# EAGLE library part TDA2500 (library Audio-Power-amlifier V.2.0)
The TDA2500 is a two-channel Amplifier Driver IC that uses Tripath’s proprietary Digital Power Processing (DPPTM) technology. Class-T amplifiers offer both the audio fidelity of Class-AB and the power efficiency of Class-D amplifiers.
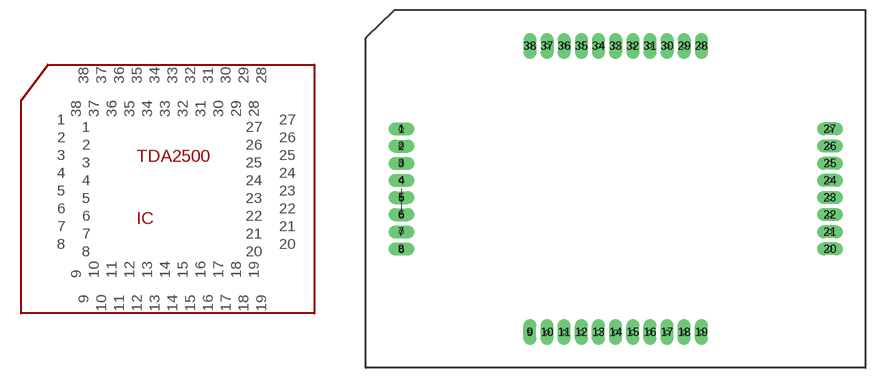
[diagram p90: symbol with the pads of 4150-1X8SF1; footprint 4150-1X8SF1]

Designator prefix IC

## TDA2500  [4150-1X8SF1]
1  1  pwr
2  2
3  3  pwr
4  4
5  5  in
6  6  in
7  7
8  8
9  9  out
10  10  out
11  11
12  12
13  13
14  14
15  15
16  16
17  17
18  18
19  19
20  20  out
21  21
22  22
23  23  pwr
24  24  pwr
25  25
26  26
27  27  out
28  28  pwr
29  29
30  30
31  31
32  32
33  33
34  34
35  35
36  36  nc
37  37  pwr
38  38  pwr

## Footprint 4150-1X8SF1 (pad centres in mm)
drill 0.9 pad 1.93 long: 1 -31.75,8.89; 2 -31.75,6.35; 3 -31.75,3.81; 4 -31.75,1.27; 5 -31.75,-1.27; 6 -31.75,-3.81; 7 -31.75,-6.35; 8 -31.75,-8.89; 9 -12.7,-21.2; 10 -10.16,-21.2; 11 -7.62,-21.2; 12 -5.08,-21.2; 13 -2.54,-21.2; 14 0,-21.2; 15 2.54,-21.2; 16 5.08,-21.2; 17 7.62,-21.2; 18 10.16,-21.2; 19 12.7,-21.2; 20 31.75,-8.89; 21 31.75,-6.35; 22 31.75,-3.81; 23 31.75,-1.27; 24 31.75,1.27; 25 31.75,3.81; 26 31.75,6.35; 27 31.75,8.89; 28 12.7,21.2; 29 10.16,21.2; 30 7.62,21.2; 31 5.08,21.2; 32 2.54,21.2; 33 0,21.2; 34 -2.54,21.2; 35 -5.08,21.2; 36 -7.62,21.2; 37 -10.16,21.2; 38 -12.7,21.2
hole 0.6 at -31.75,8.89
hole 0.6 at -31.75,6.35
hole 0.6 at -31.75,3.81
hole 0.6 at -31.75,1.27
hole 0.6 at -31.75,-1.27
hole 0.6 at -31.75,-3.81
hole 0.6 at -31.75,-6.35
hole 0.6 at -31.75,-8.89
hole 0.6 at 31.75,8.89
hole 0.6 at 31.75,6.35
hole 0.6 at 31.75,3.81
hole 0.6 at 31.75,1.27
hole 0.6 at 31.75,-1.27
hole 0.6 at 31.75,-3.81
hole 0.6 at 31.75,-6.35
hole 0.6 at 31.75,-8.89
hole 0.6 at -12.7,21.2
hole 0.6 at -10.16,21.2
hole 0.6 at -7.62,21.2
hole 0.6 at -5.08,21.2
hole 0.6 at -2.54,21.2
hole 0.6 at 0,21.2
hole 0.6 at 2.54,21.2
hole 0.6 at 5.08,21.2
hole 0.6 at 7.62,21.2
hole 0.6 at 10.16,21.2
hole 0.6 at 12.7,21.2
hole 0.6 at 12.7,-21.2
hole 0.6 at 10.16,-21.2
hole 0.6 at 7.62,-21.2
hole 0.6 at 5.08,-21.2
hole 0.6 at 2.54,-21.2
hole 0.6 at 0,-21.2
hole 0.6 at -2.54,-21.2
hole 0.6 at -5.08,-21.2
hole 0.6 at -7.62,-21.2
hole 0.6 at -10.16,-21.2
hole 0.6 at -12.7,-21.2